# Altium schematic symbol library DIODE,TVS,5V,SOD523.Schlib: 1 symbol
Pins are listed as number, name and electrical type; pins without a type are passive.

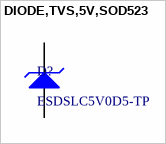
[diagram p0: symbol DIODE,TVS,5V,SOD523]

## DIODE,TVS,5V,SOD523
designator D?, comment ESDSLC5V0D5-TP
16V Clamp 5A (8/20µs) Ipp Tvs Diode Surface Mount SOD-523
pins: 1 K, 2 A